# Altium footprint library ToponLib.PcbLib: 3 footprints
Each footprint in its own frame and in the unit in brackets; x right, y up, seen from the top. Pads: shape width x height; smd on the part's side, far side on the other; paste and mask are expansions set on the pad; w line width, h text height; cw(c..) or ccw(c..) is an arc to the next point about the centre after c.
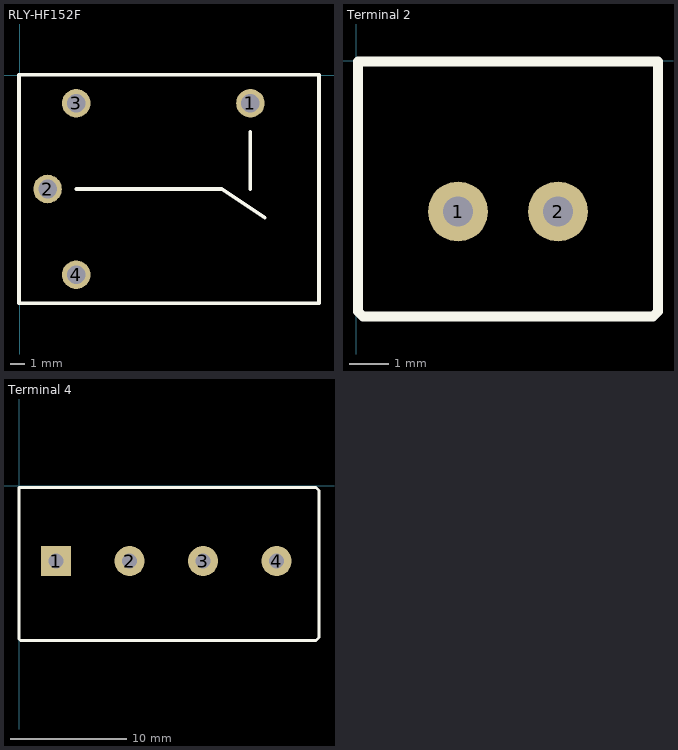
[diagram p0: the footprints below, top view; thin cyan lines are the x and y axes]

## RLY-HF152F [mm] "Relay"
pads (4):
  round 2 hole 1.3: 1(16.156,-1.976) 2(1.956,-7.976) 3(3.956,-1.976) 4(3.956,-13.976)
Top Overlay:
  lines w0.254: 3.956,-7.976 14.156,-7.976 17.156,-9.976 ; 16.156,-7.976 16.156,-3.976 ; -0.044,-15.976 -0.044,0.024 20.956,0.024 20.956,-15.976 -0.044,-15.976

## Terminal 2 [mil]
pads (2):
  round 60 hole 30: 1(102,-151) 2(202,-151)
Top Overlay:
  lines w10: 2,-251 2,-1 302,-1 302,-251 297,-256 7,-256 2,-251

## Terminal 4 [mm]
pads (4):
  rect 2.6x2.6 hole 1.3: 1(3.2,-6.502)
  round 2.6 hole 1.3: 2(9.55,-6.502) 3(15.9,-6.502) 4(22.25,-6.502)
Top Overlay:
  lines w0.254: 0,-13.233 0.127,-13.36 0.508,-13.36 25.654,-13.36 25.908,-13.106 25.908,-0.406 25.654,-0.152 0,-0.152 0,-13.233